# Altium footprint library LGA-10(2.0X2.0).PcbLib: 1 footprints
Each footprint in its own frame and in the unit in brackets; x right, y up, seen from the top. Pads: shape width x height; smd on the part's side, far side on the other; paste and mask are expansions set on the pad; w line width, h text height; cw(c..) or ccw(c..) is an arc to the next point about the centre after c.
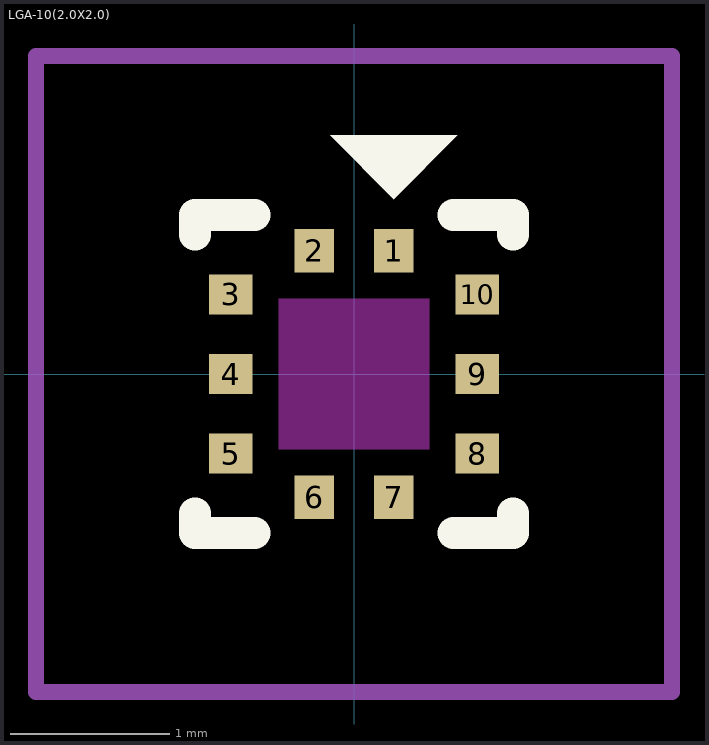
[diagram p0: the footprint, top view; thin cyan lines are the x and y axes]

## LGA-10(2.0X2.0) [mm]
height 0.8
pads (10):
  rect 0.25x0.275 smd: 1(0.25,0.775) 2(-0.25,0.775) 6(-0.25,-0.775) 7(0.25,-0.775)
  rect 0.275x0.25 smd: 3(-0.775,0.5) 4(-0.775,0) 5(-0.775,-0.5) 8(0.775,-0.5) 9(0.775,0) 10(0.775,0.5)
Top Layer keep-out:
  rectangle: -0.475,-0.475 0.475,0.475
Top Overlay:
  region: -0.15,1.5 0.65,1.5 0.25,1.1
  lines w0.2: -1,-0.875 -1,-1 -0.625,-1 ; -1,0.875 -1,1 -0.625,1 ; 0.625,-1 1,-1 1,-0.875 ; 0.625,1 1,1 1,0.875
Top Courtyard:
  lines w0.1: -2,-2 -2,2 2,2 2,-2 -1,-2 -2,-2
3D body "step_temp.STEP": height 0.8, standoff 0, extent -1,-1 1,1